# Altium footprint library A20_DVK1_BASE_V16.PcbLib: 45 footprints (part 2 of 3)
Each footprint in its own frame and in the unit in brackets; x right, y up, seen from the top. Pads: shape width x height; smd on the part's side, far side on the other; paste and mask are expansions set on the pad; w line width, h text height; cw(c..) or ccw(c..) is an arc to the next point about the centre after c.
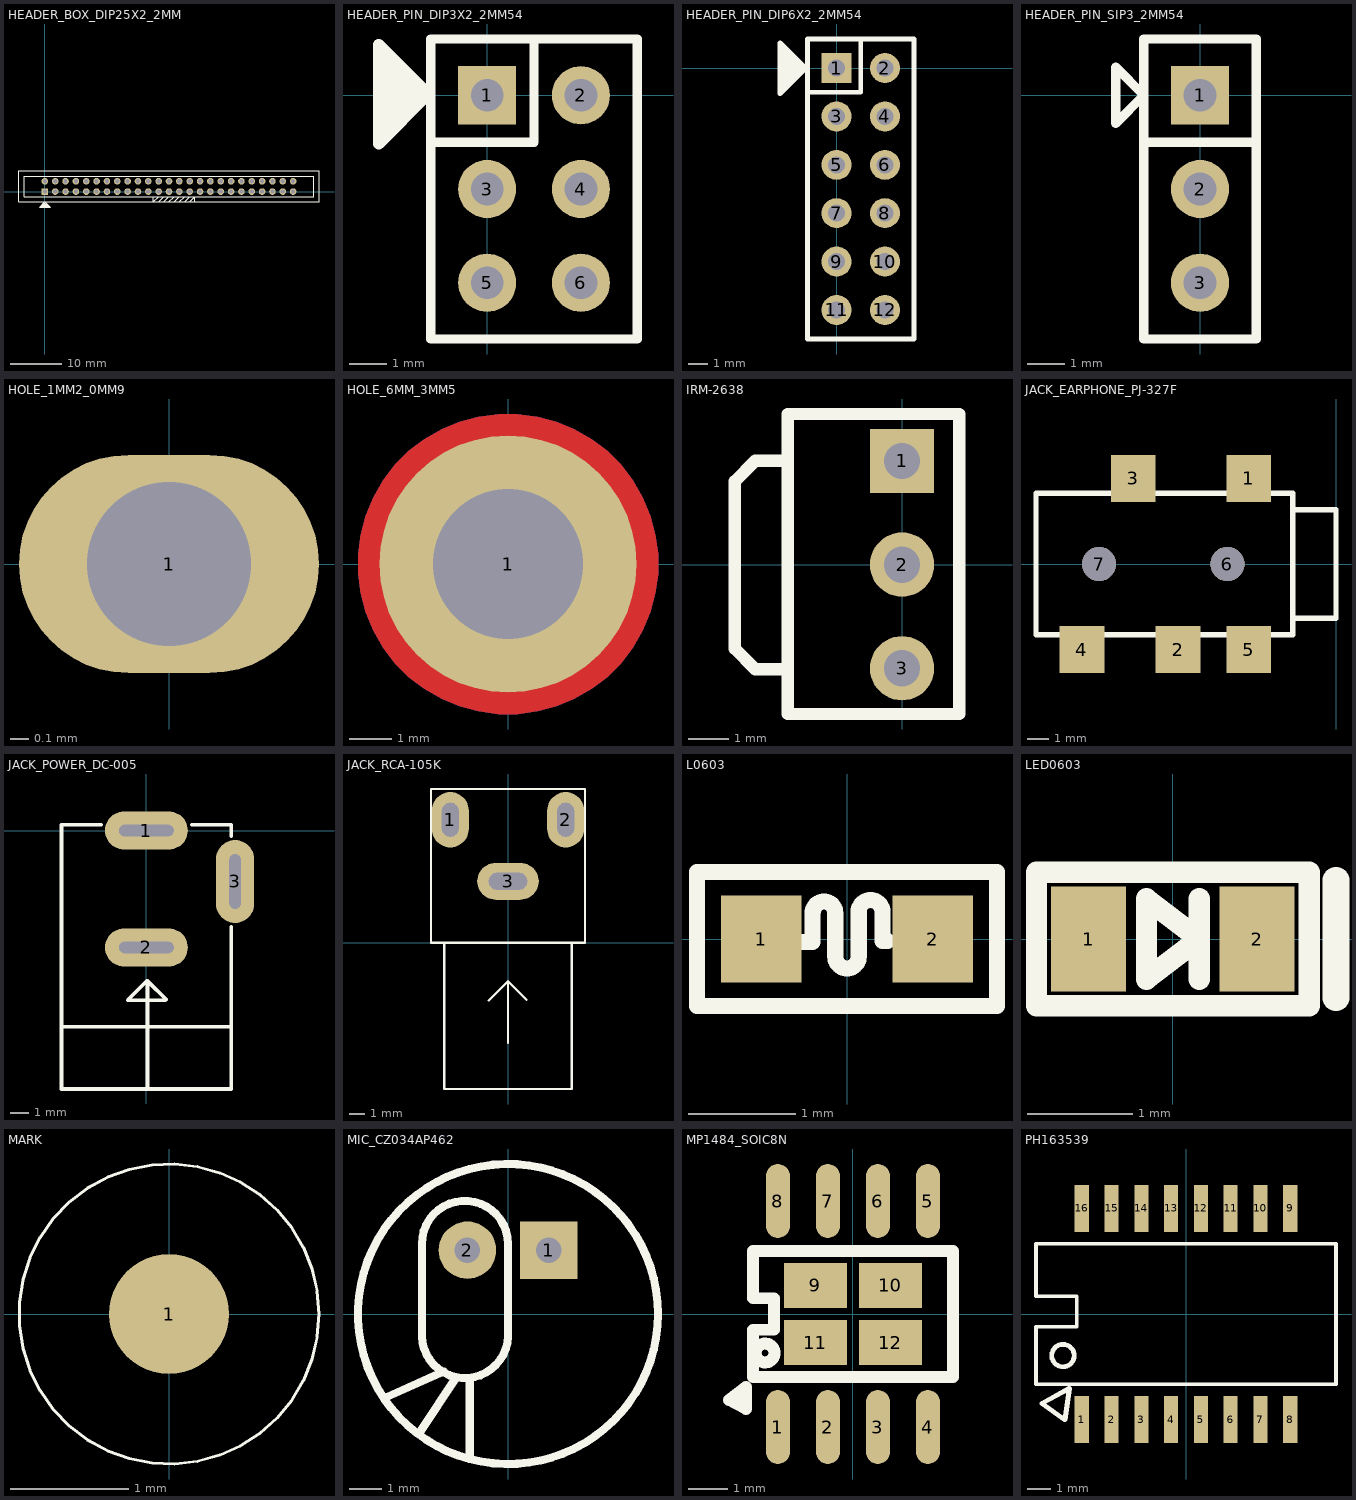
[diagram p1: the footprints below, top view; thin cyan lines are the x and y axes]

## HEADER_BOX_DIP25X2_2MM [mm]
pads (50):
  rect 1.27x1.27 / inner rect 1.27x1.27 / far side rect 1.27x1.67 hole 0.813: 1(0,0)
  round 1.27 / inner round 1.27 / far side oval 1.27x1.67 hole 0.813: 2(0,2) 4(2,2) 6(4,2) 8(6,2) 10(8,2) 12(10,2) 14(12,2) 16(14,2) 18(16,2) 20(18,2) 22(20,2) 24(22,2) 26(24,2) 28(26,2) 30(28,2) 32(30,2) 34(32,2) 36(34,2) 38(36,2) 40(38,2) 42(40,2) 44(42,2) 46(44,2) 48(46,2) 50(48,2)
  rrect100% 1.27x1.27 / inner round 1.27 / far side oval 1.27x1.67 hole 0.813: 3(2,0) 5(4,0) 7(6,0) 9(8,0) 11(10,0) 13(12,0) 15(14,0) 17(16,0) 19(18,0) 21(20,0) 23(22,0) 25(24,0) 27(26,0) 29(28,0) 31(30,0) 33(32,0) 35(34,0) 37(36,0) 39(38,0) 41(40,0) 43(42,0) 45(44,0) 47(46,0) 49(48,0)
Top Overlay:
  lines w0.203: -0.811,-2.811 0.811,-2.811 ; -0.278,-2.357 0.357,-2.357 0.489,-2.489 -0.489,-2.489 -0.585,-2.632 0.632,-2.632 ; 0,-2.357 0,-2.208 ; 21,-1 21,-2 22,-1 ; 22,-2 23,-1 ; 23,-2 24,-1 ; 24,-2 25,-1 ; 25,-2 26,-1 ; 26,-2 27,-1 ; 27,-2 28,-1 ; 28,-2 29,-1 29,-2 ; -5,-2 -5,4 53,4 53,-2 -5,-2 ; -4,-1 52,-1 52,3 -4,3 -4,-1 ; -1,-3 1,-3 0,-2 -1,-3

## HEADER_PIN_DIP3X2_2MM54 [mil]
pads (6):
  rect 62x62 hole 35: 1(0,0)
  round 62 hole 35: 2(100,0) 3(0,-100) 4(100,-100) 5(0,-200) 6(100,-200)
Top Overlay:
  lines w10: -60,-50 50,-50 50,60 ; -60,-260 -60,60 160,60 160,-260 -60,-260
  lines w12: -63.52,0.33 -115.55,-51.7 -115.55,54.25 -62.1,0.8
  lines w19.68: -105.8,-28.4 -105.8,33.1 ; -93.8,-15.6 -93.8,20 ; -81.8,-4.3 -81.8,9.5 ; -75.6,-3.3 -75.6,5.1

## HEADER_PIN_DIP6X2_2MM54 [mil]
pads (12):
  rect 62x62 hole 35: 1(0,0)
  round 62 hole 35: 2(100,0) 3(0,-100) 4(100,-100) 5(0,-200) 6(100,-200) 7(0,-300) 8(100,-300) 9(0,-400) 10(100,-400) 11(0,-500) 12(100,-500)
Top Overlay:
  lines w10: -116.93,-20.47 -116.93,-52.76 -116.54,-53.15 -116.54,-52.76 -63.94,-0.16 -63.94,0 -63.94,-1.18 -63.94,-1.02 -116.93,51.97 -116.93,-35.83 -109.57,-39.25 -109.57,44.61 ; -100.86,35.9 -100.86,-33 -100.79,-33.07 ; -92.52,-25.59 -92.03,-25.1 -92.03,27.07 ; -83.43,-12.96 -83.43,18.47 ; -76.1,-6.02 -76.1,11.13 ; -60,-50 50,-50 50,60 ; -60,-560 160,-560 160,60 -60,60 -60,-560

## HEADER_PIN_SIP3_2MM54 [mil]
pads (3):
  rect 62x62 hole 35: 1(0,0)
  round 62 hole 35: 2(0,-100) 3(0,-200)
Top Overlay:
  lines w10: -60,-50 60,-50 ; -90,-30 -90,30 -60,0 -90,-30 ; -60,-260 60,-260 60,-160 60,60 0,60 -60,60 -60,-160 -60,-260

## HOLE_1MM2_0MM9 [mm]
pads (1):
  oval 1.65x1.2 / inner oval 1.5x1.2 / far side oval 2x1.2 hole 0.9: 1(0,0)

## HOLE_6MM_3MM5 [mm]
pads (1):
  round 6 hole 3.5: 1(0,0)
Top Layer:
  region: 3.5,0 3.5,0.229 3.44,0.684 3.321,1.127 3.146,1.551 2.916,1.949 2.637,2.313 2.313,2.637 1.949,2.916 1.551,3.146 1.127,3.321 0.684,3.44 0.229,3.5 0,3.5 -0.229,3.5 -0.684,3.44 -1.127,3.321 -1.551,3.146 -1.949,2.916 -2.313,2.637 -2.637,2.313 -2.916,1.949 -3.146,1.551 -3.321,1.127 -3.44,0.684 -3.5,0.229 -3.5,0 -3.5,-0.229 -3.44,-0.684 -3.321,-1.127 -3.146,-1.551 -2.916,-1.949 -2.637,-2.313 -2.313,-2.637 -1.949,-2.916 -1.551,-3.146 -1.127,-3.321 -0.684,-3.44 -0.229,-3.5 0,-3.5 0.229,-3.5 0.684,-3.44 1.127,-3.321 1.551,-3.146 1.949,-2.916 2.313,-2.637 2.637,-2.313 2.916,-1.949 3.146,-1.551 3.321,-1.127 3.44,-0.684 3.5,-0.229
Bottom Layer:
  region: 3.5,0 3.5,0.229 3.44,0.684 3.321,1.127 3.146,1.551 2.916,1.949 2.637,2.313 2.313,2.637 1.949,2.916 1.551,3.146 1.127,3.321 0.684,3.44 0.229,3.5 0,3.5 -0.229,3.5 -0.684,3.44 -1.127,3.321 -1.551,3.146 -1.949,2.916 -2.313,2.637 -2.637,2.313 -2.916,1.949 -3.146,1.551 -3.321,1.127 -3.44,0.684 -3.5,0.229 -3.5,0 -3.5,-0.229 -3.44,-0.684 -3.321,-1.127 -3.146,-1.551 -2.916,-1.949 -2.637,-2.313 -2.313,-2.637 -1.949,-2.916 -1.551,-3.146 -1.127,-3.321 -0.684,-3.44 -0.229,-3.5 0,-3.5 0.229,-3.5 0.684,-3.44 1.127,-3.321 1.551,-3.146 1.949,-2.916 2.313,-2.637 2.637,-2.313 2.916,-1.949 3.146,-1.551 3.321,-1.127 3.44,-0.684 3.5,-0.229

## IRM-2638 [mil]
pads (3):
  rect 62x62 hole 35: 1(0,100)
  round 62 hole 35: 2(0,0) 3(0,-100)
Top Overlay:
  lines w12: -110.24,-100.79 -141.73,-100.79 -161.42,-81.1 -161.42,80.31 -141.73,100 -110.24,100 ; -110.24,-144.09 55.12,-144.09 55.12,145.28 -110.24,145.28 -110.24,-144.09

## JACK_EARPHONE_PJ-327F [mm]
pads (7):
  rect 2.1x2.2 smd: 1(-4.08,4) 2(-7.38,-4) 3(-9.48,4) 4(-11.88,-4) 5(-4.08,-4)
  round 1.6 hole 1.6: 6(-5.08,0) 7(-11.08,0)
Top Overlay:
  lines w0.254: -14.03,-3.302 -2.032,-3.302 -2.032,3.302 -14.03,3.302 -14.03,-3.302 ; -2.032,-2.54 0,-2.54 0,2.54 -2.032,2.54 -2.032,-2.54

## JACK_POWER_DC-005 [mm]
pads (3):
  oval 4.4x2.032 hole 0.6 slot 2.9 at 0 deg: 1(0,0) 2(0,-6.2)
  oval 2.032x4.4 hole 0.6 slot 2.9 at 90 deg: 3(4.7,-2.7)
Top Overlay:
  lines w0.2: -4.5,-10.4 4.5,-10.4 ; -2.4,0.3 -4.5,0.3 -4.5,-13.7 4.5,-13.7 4.5,-5.1 ; -0.98,-9 1,-9 ; -0.965,-8.965 0.035,-7.965 ; 0.054,-13.616 0.054,-8.155 ; 0.06,-7.97 1.06,-8.97 ; 2.4,0.3 4.5,0.3 4.5,-0.3

## JACK_RCA-105K [mm]
pads (3):
  oval 2.4x3.6 / inner oval 2.4x3.6 / far side oval 3x4.4 hole 1.1 slot 2.2 at 90 deg: 1(-3.75,8) 2(3.75,8)
  oval 4x2.4 / inner oval 4x2.4 / far side oval 5x3 hole 1.1 slot 2.5 at 0 deg: 3(0,4)
Top Overlay:
  lines w0.152: -1.25,-3.75 0,-2.5 ; 0,-6.5 0,-2.5 ; 1.2,-3.7 0,-2.5 ; -5,0 5,0 5,10 -5,10 -5,0 ; -4.15,-9.5 4.15,-9.5 4.15,0 -4.15,0 -4.15,-9.5

## L0603 [mil]
pads (2):
  rect 29.5x32 smd: 1(-31.5,0) 2(31.5,0)
Top Overlay:
  lines w5.91: -16.14,-1.18 -12.99,-1.18 ; -12.6,-1.18 -12.6,9.45 cw(c-8.46,9.64) -4.33,9.45 -4.33,-6.3 ccw(c0,-6.46) 4.33,-6.3 4.33,10.63 cw(c8.66,9.94) 12.99,10.63 12.99,-0.79 14.96,-0.79 ; -55.12,-24.61 55.12,-24.61 55.12,24.61 -55.12,24.61 -55.12,-24.61

## LED0603 [mm]
pads (2):
  rect 0.711x1 smd: 1(-0.8,0) 2(0.8,0)
Top Overlay:
  lines w0.203: 0.25,-0.381 0.25,0.381 ; -1.295,-0.635 -1.295,0.635 1.295,0.635 1.295,-0.635 -1.295,-0.635 ; -0.25,-0.381 0.25,0 -0.25,0.381 -0.25,-0.381
  lines w0.254: 1.55,-0.559 1.55,0.559

## MARK [mil]
pads (1):
  round 40 smd mask+20: 1(0,0)
Top Overlay:
  circle w1: c0,0 r50

## MIC_CZ034AP462 [mm]
pads (2):
  rect 1.8x1.8 hole 0.8: 1(1.27,2)
  round 1.8 hole 0.8: 2(-1.27,2)
Top Overlay:
  circle w0.254: c0,0 r4.7
  lines w0.254: -3.8,-2.6 -2,-1.8 ; -2.723,-3.651 -1.65,-2.02 ; -2.7,2.2 -2.7,-0.7 ccw(c-1.35,-0.658) 0,-0.7 0,2.2 ; -2.7,2.201 cw(c-1.35,2.196) 0,2.199 ; -1.2,-4.5 -1.2,-2

## MP1484_SOIC8N [mil]
pads (12):
  oval 24x74 smd: 1(-75,-113) 2(-25,-113) 3(25,-113) 4(75,-113) 5(75,113) 6(25,113) 7(-25,113) 8(-75,113)
  rect 62.99x45.28 smd: 9(-37.4,28.54) 10(37.4,28.54) 11(-37.4,-28.54) 12(37.4,-28.54)
Top Overlay:
  circle w12: c-87.81,-39 r9.43
  lines w11.81: -123.75,-85.87 -106.75,-94.87 -106.75,-72.87 -123.75,-85.87 ; -100,-63 -100,-15.75 -78.74,-15.75 -78.74,15.75 -100,15.75 -100,63 100,63 100,-63 -100,-63

## PH163539 [mm]
pads (16):
  rect 0.6x2 smd: 1(-4.445,-4.5) 2(-3.175,-4.5) 3(-1.905,-4.5) 4(-0.635,-4.5) 5(0.635,-4.5) 6(1.905,-4.5) 7(3.175,-4.5) 8(4.445,-4.5) 9(4.445,4.5) 10(3.175,4.5) 11(1.905,4.5) 12(0.635,4.5) 13(-0.635,4.5) 14(-1.905,4.5) 15(-3.175,4.5) 16(-4.445,4.5)
Top Overlay:
  circle w0.203: c-5.245,-1.773 r0.478
  lines w0.152: -6.395,-3 -6.395,-0.55 -4.65,-0.55 -4.65,0.75 -6.395,0.75 -6.395,3 6.395,3 6.395,-3 -6.395,-3
  lines w0.203: -4.967,-3.166 -5.158,-4.51 -6.144,-3.81 -4.967,-3.161